# EAGLE library part LMV221SD (library GTA04b7)
50 MHz to 3.5 GHz 40 dB Logarithmic Power Detector for CDMA and WCDMA
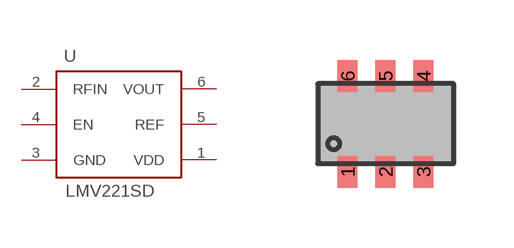
[diagram p24: symbol with the pads of SOT23-6; footprint SOT23-6]

Designator prefix -

## LMV221SD-WRONGPACK  [SOT23-6]
1  VDD  pwr
2  RFIN  in
3  GND  pwr
4  EN  in
5  REF  pas
6  VOUT  pas

## Footprint SOT23-6 (pad centres in mm)
SOT23 with 6 pins
smd 0.5 x 0.8: 1 -0.95,-1.2; 2 0,-1.2; 3 0.95,-1.2; 4 0.95,1.2; 5 0,1.2; 6 -0.95,1.2